# Altium footprint library PcbLib2.PcbLib: 1 footprints
Each footprint in its own frame and in the unit in brackets; x right, y up, seen from the top. Pads: shape width x height; smd on the part's side, far side on the other; paste and mask are expansions set on the pad; w line width, h text height; cw(c..) or ccw(c..) is an arc to the next point about the centre after c.
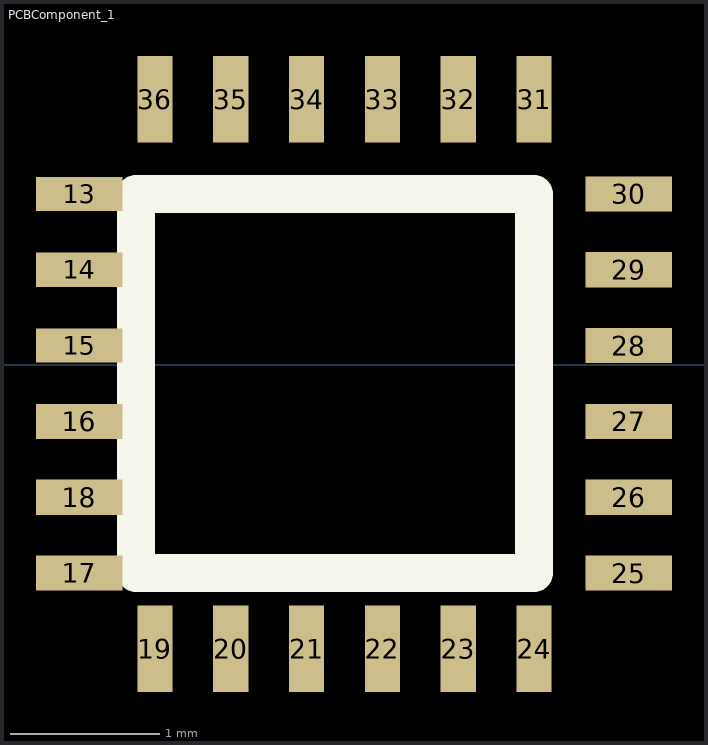
[diagram p0: the footprint, top view; thin cyan lines are the x and y axes]

## PCBComponent_1 [mil]
pads (24):
  rect 22.83x9 smd: 13(565,45)
  rect 22.85x9 smd: 14(565,25) 15(565,5)
  rect 22.85x9.25 smd: 16(565,-15) 17(565,-55) 18(565,-35) 25(710,-55) 26(710,-35) 27(710,-15) 28(710,5) 29(710,25) 30(710,45)
  rect 9.25x22.85 smd: 19(585,-75) 20(605,-75) 21(625,-75) 22(645,-75) 23(665,-75) 24(685,-75) 31(685,70) 32(665,70) 33(645,70) 34(625,70) 35(605,70) 36(585,70)
Top Overlay:
  lines w10: 580,-55 685,-55 685,45 580,45 580,-55
3D body "RGE24_2P7X2P7_TEX.step": height 39.49, standoff 0, extent 552.6,-87.4 720,80